# EAGLE library part ATTINY102F-SSNR (library ATTINY102F-SSNR)
None
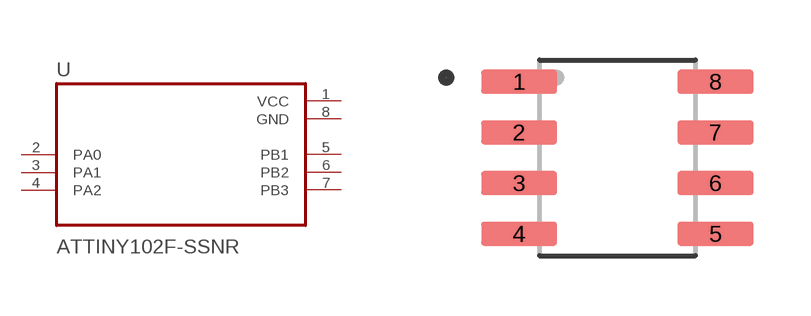
[diagram p0: symbol with the pads of SOIC127P600X175-8N; footprint SOIC127P600X175-8N]

Designator prefix U

## ATTINY102F-SSNR (AVAILABILITY: Good; DESCRIPTION: Avr, 1kb Self-Programmable Flash, 32b Sram, Adc - 12mhz, Soic, High Grade _+105c_, Fast St/ Soic .150 _Ss_; MF: Microchip; MP: ATTINY102F-SSNR; PACKAGE: SOIC-8 Microchip; PRICE: 0.56 USD)  [SOIC127P600X175-8N]
1  VCC  pwr
2  PA0
3  PA1
4  PA2
5  PB1
6  PB2
7  PB3
8  GND  pwr

## Footprint SOIC127P600X175-8N (pad centres in mm)
smd 1.9 x 0.6: 1 -2.455,1.905; 2 -2.455,0.635; 3 -2.455,-0.635; 4 -2.455,-1.905; 5 2.455,-1.905; 6 2.455,-0.635; 7 2.455,0.635; 8 2.455,1.905